# Altium footprint library DPGE-252-492R+.PcbLib: 1 footprints
Each footprint in its own frame and in the unit in brackets; x right, y up, seen from the top. Pads: shape width x height; smd on the part's side, far side on the other; paste and mask are expansions set on the pad; w line width, h text height; cw(c..) or ccw(c..) is an arc to the next point about the centre after c.
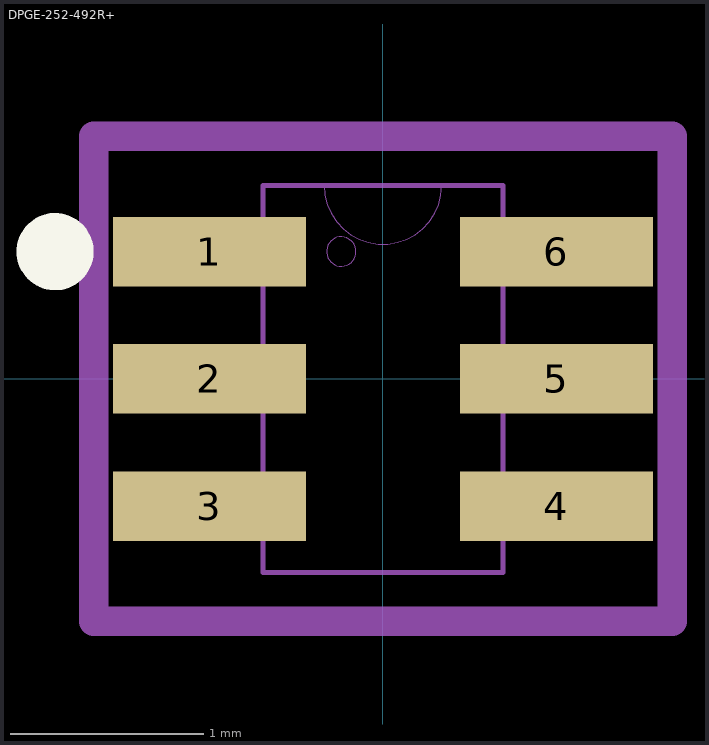
[diagram p0: the footprint, top view; thin cyan lines are the x and y axes]

## DPGE-252-492R+ [mm]
pads (6):
  rect 1x0.36 smd paste+0 mask+0: 1(-0.9,0.66) 2(-0.9,0) 3(-0.9,-0.66) 4(0.9,-0.66) 5(0.9,0) 6(0.9,0.66)
Top Overlay:
  circle w0.2: c-1.7,0.66 r0.1
Mechanical 13:
  circle w0: c-0.216,0.66 r0.076
  lines w0: -0.305,1.003 ccw(c0,1.003) 0.305,1.003
  lines w0.025: -0.622,-1.003 -0.622,1.003 0.622,1.003 0.622,-1.003 -0.622,-1.003
Mechanical 15:
  lines w0.152: -1.5,-1.257 -0.876,-1.257 0.876,-1.257 1.5,-1.257 1.5,1.257 0.876,1.257 -0.876,1.257 -1.5,1.257 -1.5,-1.257
3D body "GE0805C-10_MNC.step": height 0.61, standoff 0, extent -0.622,-1.003 0.622,1.003